# Altium footprint library кнопки.PcbLib: 5 footprints
Each footprint in its own frame and in the unit in brackets; x right, y up, seen from the top. Pads: shape width x height; smd on the part's side, far side on the other; paste and mask are expansions set on the pad; w line width, h text height; cw(c..) or ccw(c..) is an arc to the next point about the centre after c.
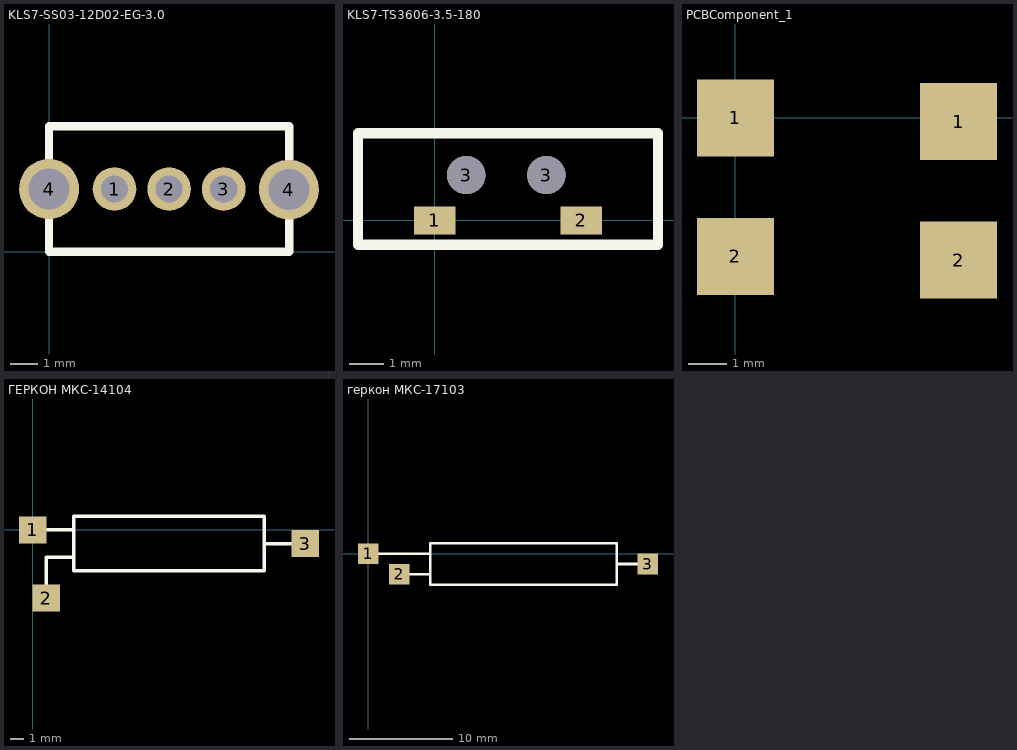
[diagram p0: the footprints below, top view; thin cyan lines are the x and y axes]

## KLS7-SS03-12D02-EG-3.0 [mm]
pads (5):
  round 1.6 hole 1: 1(2.4,2.3) 2(4.4,2.3) 3(6.4,2.3)
  round 2.2 hole 1.5: 4(0,2.3) 4(8.794,2.28)
Top Overlay:
  lines w0.3: 0,0 0,4.6 8.8,4.6 8.8,0 0,0
3D body: height 12, standoff 6, extent 2.1,1.3 4.1,3.3
3D body: height 1, standoff -1, extent 6.1,2.1 6.6,2.6
3D body: height 1, standoff -1, extent 4.15,2.05 4.65,2.55
3D body: height 1, standoff -1, extent 2.15,2.05 2.65,2.55
3D body: height 4.7, standoff 0, extent 0,0 8.8,4.6

## KLS7-TS3606-3.5-180 [mm]
pads (4):
  rect 1.2x0.8 smd: 1(0,0) 2(4.2,0)
  round 1.1 hole 1.1 unplated: 3(0.9,1.3) 3(3.2,1.3)
Top Overlay:
  lines w0.3: -2.2,-0.7 -2.2,2.5 6.4,2.5 6.4,-0.7 -2.2,-0.7
3D body: height 3.35, standoff 0, extent -1.9,0 6.1,2.1

## PCBComponent_1 [mm]
pads (4):
  rect 2x2 smd: 1(0,0) 1(5.8,-0.1) 2(0,-3.6) 2(5.8,-3.7)

## ГЕРКОН МКС-14104 [mm]
pads (3):
  rect 2x2 smd: 1(0,0) 2(1,-5) 3(20,-1)
Top Overlay:
  lines w0.254: 1,-4 1,-2 3,-2 ; 1,0 3,0 ; 17,-1 19,-1 ; 3,-3 3,1 17,1 17,-3 3,-3

## геркон МКС-17103 [mm]
pads (3):
  rect 2x2 smd: 1(0,0) 2(3,-2) 3(27,-1)
Top Overlay:
  lines w0.254: 1,0 6,0 ; 4,-2 6,-2 ; 24,-1 26,-1 ; 6,-3 24,-3 24,1 6,1 6,-3